# EAGLE library part OPENDECODER2 (library dcc)
OpenDecoder2
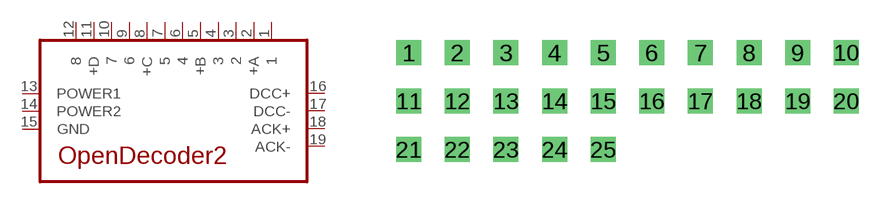
[diagram p2: symbol with the pads of DUMMY25; footprint DUMMY25]

Designator prefix -

## OPENDECODER2  [DUMMY25]
1  1
2  +A
3  2
4  3
5  +B
6  4
7  5
8  +C
9  6
10  7
11  +D
12  8
13  POWER1
14  POWER2
15  GND
16  DCC+
17  DCC-
18  ACK+
19  ACK-

## Footprint DUMMY25 (pad centres in mm)
drill 0.8 square: 1 -11.43,0; 2 -8.89,0; 3 -6.35,0; 4 -3.81,0; 5 -1.27,0; 6 1.27,0; 7 3.81,0; 8 6.35,0; 9 8.89,0; 10 11.43,0; 11 -11.43,-2.54; 12 -8.89,-2.54; 13 -6.35,-2.54; 14 -3.81,-2.54; 15 -1.27,-2.54; 16 1.27,-2.54; 17 3.81,-2.54; 18 6.35,-2.54; 19 8.89,-2.54; 20 11.43,-2.54; 21 -11.43,-5.08; 22 -8.89,-5.08; 23 -6.35,-5.08; 24 -3.81,-5.08; 25 -1.27,-5.08